# EAGLE library part ADM108* (library ic-AD)
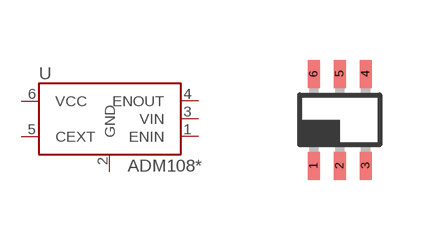
[diagram p0: symbol with the pads of SC70-6; footprint SC70-6]

Designator prefix U

## ADM1085 (OUTPUT: OpenDrain), ADM1086 (OUTPUT: PushPull)  [SC70-6]
1  ENIN
2  GND
3  VIN
4  ENOUT
5  CEXT
6  VCC

## Footprint SC70-6 (pad centres in mm)
smd 0.3 x 0.7: 1 -0.65,-1.15; 2 0,-1.15; 3 0.65,-1.15; 4 0.65,1.15; 5 0,1.15; 6 -0.65,1.15